# Altium footprint library usb-dongle.PcbLib: 14 footprints
Each footprint in its own frame and in the unit in brackets; x right, y up, seen from the top. Pads: shape width x height; smd on the part's side, far side on the other; paste and mask are expansions set on the pad; w line width, h text height; cw(c..) or ccw(c..) is an arc to the next point about the centre after c.
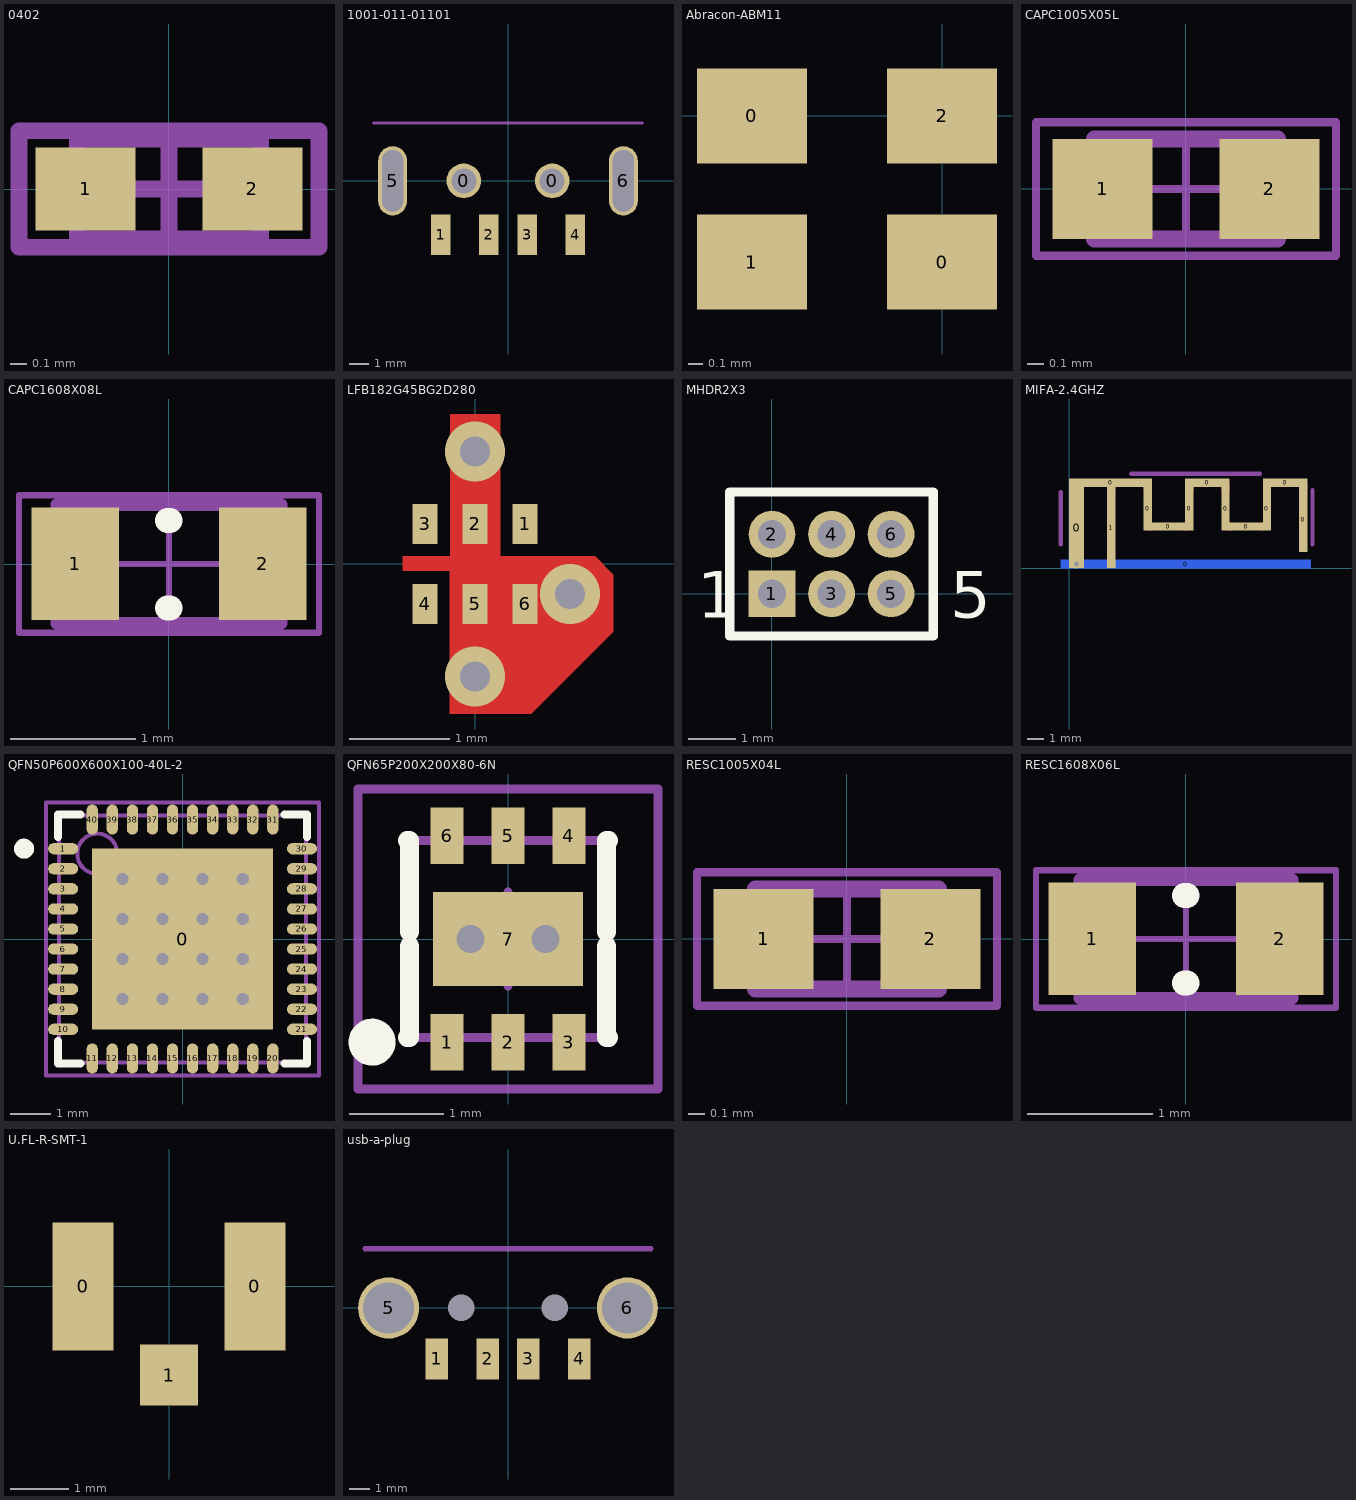
[diagram p0: the footprints below, top view; thin cyan lines are the x and y axes]

## 0402 [mm] "Chip Capacitor, Body 1.0x0.5mm, IPC High Density"
height 1.3
pads (2):
  rect 0.6x0.5 smd: 1(-0.5,0) 2(0.5,0)
Mechanical 13:
  lines w0.1: -0.55,-0.3 -0.55,0.3 0.55,0.3 0.55,-0.3 -0.55,-0.3
Mechanical 15:
  lines w0.1: -0.3,0 0.3,0 ; 0,-0.3 0,0.3 ; -0.9,-0.35 -0.9,0.35 0.9,0.35 0.9,-0.35 -0.9,-0.35
3D body: height 1.3, standoff 0, extent -0.55,-0.3 0.55,0.3

## 1001-011-01101 [mm] "CNC Tech CONN USB A TYPE ULTRA FLAT SMD"
pads (8):
  round 1.8 hole 1.3 unplated: 0(-2.3,0) 0(2.3,0)
  rect 1x2.1 smd: 1(-3.5,-2.8) 2(-1,-2.8) 3(1,-2.8) 4(3.5,-2.8)
  oval 1.5x3.6 hole 1.1 slot 3.2 at 90 deg: 5(-6,0) 6(6,0)
Mechanical 1:
  lines w0.15: -7,3 7,3
3D body: height 0, standoff -2.8, extent -6.2,-1 -5.8,1
3D body: height 0, standoff -2.8, extent 5.8,-1 6.2,1
3D body: height 1, standoff 0, extent 3.066,-3.269 3.934,-1
3D body: height 1, standoff 0, extent 0.566,-3.269 1.434,-1
3D body: height 1, standoff 0, extent -1.434,-3.269 -0.566,-1
3D body: height 1, standoff 0, extent -3.934,-3.269 -3.066,-1
3D body: height 3.2, standoff -1.3, extent -6,-1 6,18.7

## Abracon-ABM11 [mm]
pads (4):
  rect 0.75x0.65 smd: 0(-1.3,0) 0(0,-1) 1(-1.3,-1) 2(0,0)
3D body: height 0.59, standoff 0, extent -1.65,-1.3 0.35,0.3

## CAPC1005X05L [mm] "Chip Capacitor, Body 1.1x0.5mm, IPC High Density, EIA 0402"
height 0.5
pads (2):
  rect 0.6x0.6 smd: 1(-0.5,0) 2(0.5,0)
Mechanical 13:
  lines w0.1: -0.55,-0.3 0.55,-0.3 0.55,0.3 -0.55,0.3 -0.55,-0.3
Mechanical 15:
  lines w0.05: -0.3,0 0.3,0 ; 0,-0.3 0,0.3 ; -0.9,-0.4 -0.9,0.4 0.9,0.4 0.9,-0.4 -0.9,-0.4
3D body: height 0.6, standoff 0, extent -0.55,-0.3 -0.25,0.3
3D body: height 0.6, standoff 0, extent -0.25,-0.3 0.25,0.3
3D body: height 0.6, standoff 0, extent 0.25,-0.3 0.55,0.3

## CAPC1608X08L [mm] "Chip Capacitor, Body 1.6x0.8mm, IPC High Density, EIA 0603"
height 0.8
pads (2):
  rect 0.7x0.9 smd: 1(-0.75,0) 2(0.75,0)
Top Overlay:
  lines w0.2: -0.01,-0.35 0.01,-0.35 ; -0.01,0.35 0.01,0.35
Mechanical 13:
  lines w0.1: 0.9,0.475 0.9,-0.475 -0.9,-0.475 -0.9,0.475 0.9,0.475 ; 0.9,0.475 0.9,0.475
Mechanical 15:
  lines w0.05: -0.475,0 0.475,0 ; 0,-0.475 0,0.475 ; -1.2,-0.55 1.2,-0.55 1.2,0.55 -1.2,0.55 -1.2,-0.55
3D body: height 0.95, standoff 0, extent 0.4,-0.475 0.9,0.475
3D body: height 0.95, standoff 0, extent -0.4,-0.475 0.4,0.475
3D body: height 0.95, standoff 0, extent -0.9,-0.475 -0.4,0.475

## LFB182G45BG2D280 [mm] "Murata Balun"
pads (6):
  rect 0.25x0.4 smd mask+0: 1(0.5,0.4) 2(0,0.4) 3(-0.5,0.4) 4(-0.5,-0.4) 5(0,-0.4) 6(0.5,-0.4)
via 0,1.125 diameter 0.6 hole 0.3
via 0.95,-0.3 diameter 0.6 hole 0.3
via 0,-1.125 diameter 0.6 hole 0.3
Top Layer:
  region: -0.251,-0.395 -0.251,-1.5 -0.25,-1.5 -0.249,-1.498 0.561,-1.498 1.382,-0.677
  region: -0.25,1.499 -0.25,0.027 -0.236,0.013 0.242,0.013 0.25,0.021 0.25,1.499 0.251,1.5
  region: -0.724,0.075 1.202,0.075 1.382,-0.106 1.382,-0.677 -0.215,-0.677 -0.236,-0.664 -0.251,-0.641 -0.251,-0.15 -0.251,-0.069 -0.333,-0.067 -0.721,-0.067
3D body: height 0.7, standoff 0, extent -0.851,-0.453 0.854,0.448

## MHDR2X3 [mm] "Connector; Header; 3x2 Position"
pads (6):
  rect 1x1 hole 0.6: 1(0,0)
  round 1 hole 0.6: 2(0,1.27) 3(1.27,0) 4(1.27,1.27) 5(2.54,0) 6(2.54,1.27)
Top Overlay:
  lines w0.2: -0.9,-0.9 3.44,-0.9 3.44,2.17 -0.9,2.17 -0.9,-0.9
  text "1" at -1.6,-0.508 h1
  text "5" at 3.8,-0.508 h1

## MIFA-2.4GHZ [mm]
pads (13):
  rect 0.9x4.9 smd paste-100 mask-100: 0(0.45,2.45)
  rect 5x0.5 smd paste-100 mask-100: 0(2.5,5.15)
  rect 0.5x2.64 smd paste-100 mask-100: 0(4.75,3.58) 0(7.251,3.58) 0(9.45,3.58) 0(11.95,3.58)
  rect 2x0.5 smd paste-100 mask-100: 0(6,2.51) 0(10.7,2.51)
  rect 15.1x0.5 smd far side paste-100 mask-100: 0(7.05,0.25)
  rect 2.7x0.5 smd paste-100 mask-100: 0(8.35,5.15) 0(13.05,5.15)
  rect 0.5x3.94 smd paste-100 mask-100: 0(14.15,2.93)
  rect 0.5x4.9 smd paste-100 mask-100: 1(2.55,2.45)
via 0.452,0.264 diameter 0.6 hole 0.3
Top Layer:
  rectangle: 11.7,4.786 12.2,5.088
  rectangle: 11.621,2.26 11.782,2.76
  rectangle: 9.2,4.601 9.7,5.067
  rectangle: 7,4.618 7.5,5.106
  rectangle: 0,4.544 0.9,5.13
  rectangle: 2.3,4.764 2.8,4.976
  rectangle: 4.5,4.722 5,5.016
  rectangle: 6.9,2.26 7.214,2.76
  rectangle: 4.756,2.26 5.07,2.76
  rectangle: 13.901,4.799 14.401,4.981
  rectangle: 9.588,2.261 9.814,2.761
Mechanical 1:
  lines w0.254: -0.5,1.429 -0.5,4.603 ; 3.752,5.7 11.539,5.7 ; 14.7,1.427 14.7,4.699

## QFN50P600X600X100-40L-2 [mm] "QFN, 40-Leads, Body 6.2x6.2mm (max), Pitch 0.50mm, IPC High Density"
height 1
pads (41):
  rect 4.5x4.5 smd paste-1.5 mask+0: 0(0,0)
  oval 0.75x0.28 smd paste-0.025 mask+0.05: 1(-2.975,2.25) 2(-2.975,1.75) 3(-2.975,1.25) 4(-2.975,0.75) 5(-2.975,0.25) 6(-2.975,-0.25) 7(-2.975,-0.75) 8(-2.975,-1.25) 9(-2.975,-1.75) 10(-2.975,-2.25) 21(2.975,-2.25) 22(2.975,-1.75) 23(2.975,-1.25) 24(2.975,-0.75) 25(2.975,-0.25) 26(2.975,0.25) 27(2.975,0.75) 28(2.975,1.25) 29(2.975,1.75) 30(2.975,2.25)
  oval 0.28x0.75 smd paste-0.025 mask+0.05: 11(-2.25,-2.975) 12(-1.75,-2.975) 13(-1.25,-2.975) 14(-0.75,-2.975) 15(-0.25,-2.975) 16(0.25,-2.975) 17(0.75,-2.975) 18(1.25,-2.975) 19(1.75,-2.975) 20(2.25,-2.975) 31(2.25,2.975) 32(1.75,2.975) 33(1.25,2.975) 34(0.75,2.975) 35(0.25,2.975) 36(-0.25,2.975) 37(-0.75,2.975) 38(-1.25,2.975) 39(-1.75,2.975) 40(-2.25,2.975)
via -1.5,1.5 diameter 0.6 hole 0.3
via -0.5,1.5 diameter 0.6 hole 0.3
via 0.5,1.5 diameter 0.6 hole 0.3
via 1.5,1.5 diameter 0.6 hole 0.3
via -1.5,0.5 diameter 0.6 hole 0.3
via -0.5,0.5 diameter 0.6 hole 0.3
via 0.5,0.5 diameter 0.6 hole 0.3
via 1.5,0.5 diameter 0.6 hole 0.3
via -1.5,-0.5 diameter 0.6 hole 0.3
via -0.5,-0.5 diameter 0.6 hole 0.3
via 0.5,-0.5 diameter 0.6 hole 0.3
via 1.5,-0.5 diameter 0.6 hole 0.3
via -1.5,-1.5 diameter 0.6 hole 0.3
via -0.5,-1.5 diameter 0.6 hole 0.3
via 0.5,-1.5 diameter 0.6 hole 0.3
via 1.5,-1.5 diameter 0.6 hole 0.3
Top Overlay:
  circle w0.25: c-3.95,2.25 r0.125
  lines w0.2: -3.1,-2.54 -3.1,-3.1 -2.54,-3.1 ; -3.1,2.54 -3.1,3.1 -2.54,3.1 ; 2.54,-3.1 3.1,-3.1 3.1,-2.54 ; 2.54,3.1 3.1,3.1 3.1,2.54
Top Paste:
  rectangle: 0.8,0.8 2,2
  rectangle: -0.6,0.8 0.6,2
  rectangle: -2,0.8 -0.8,2
  rectangle: -2,-0.6 -0.8,0.6
  rectangle: 0.8,-0.6 2,0.6
  rectangle: 0.8,-2 2,-0.8
  rectangle: -0.6,-2 0.6,-0.8
  rectangle: -2,-2 -0.8,-0.8
Mechanical 13:
  circle w0.1: c-2.125,2.125 r0.5
  lines w0.1: -3.075,-3.075 -3.075,3.075 3.075,3.075 3.075,-3.075 -3.075,-3.075
Mechanical 15:
  lines w0.1: -0.5,0 0.5,0 ; 0,-0.5 0,0.5 ; -3.4,-3.4 -3.4,3.4 3.4,3.4 3.4,-3.4 -3.4,-3.4
3D body: height 1, standoff 0.05, extent -3.075,-3.075 3.075,3.075

## QFN65P200X200X80-6N [mm] "QFN, 6-Leads, Body 2.1x2.1mm (max), Pitch 0.65mm, IPC Medium Density"
height 0.8
pads (7):
  rect 0.35x0.6 smd paste-0.05 mask+0.07: 1(-0.65,-1.1) 2(0,-1.1) 3(0.65,-1.1) 4(0.65,1.1) 5(0,1.1) 6(-0.65,1.1)
  rect 1.6x1 smd paste-0.1: 7(0,0)
via -0.4,0 diameter 0.6 hole 0.3
via 0.4,0 diameter 0.6 hole 0.3
Top Overlay:
  circle w0.25: c-1.45,-1.1 r0.125
  lines w0.2: -1.075,-1.05 -1.05,-1.05 -1.05,-0.075 ; -1.075,1.05 -1.05,1.05 -1.05,0.075 ; 1.05,-0.075 1.05,-1.05 1.075,-1.05 ; 1.05,0.075 1.05,1.05 1.075,1.05
Mechanical 13:
  lines w0.1: -1.05,-1.05 -1.05,1.05 1.05,1.05 1.05,-1.05 -1.05,-1.05
Mechanical 15:
  lines w0.1: -0.5,0 0.5,0 ; 0,-0.5 0,0.5 ; -1.6,-1.6 -1.6,1.6 1.6,1.6 1.6,-1.6 -1.6,-1.6
3D body: height 0.8, standoff 0, extent -1.05,-1.05 1.05,1.05

## RESC1005X04L [mm] "Chip Resistor, Body 1.1x0.5mm, IPC High Density, EIA 0402"
height 0.4
pads (2):
  rect 0.6x0.6 smd: 1(-0.5,0) 2(0.5,0)
Mechanical 13:
  lines w0.1: -0.55,-0.3 -0.55,0.3 0.55,0.3 0.55,-0.3 -0.55,-0.3
Mechanical 15:
  lines w0.05: -0.3,0 0.3,0 ; 0,-0.3 0,0.3 ; -0.9,-0.4 -0.9,0.4 0.9,0.4 0.9,-0.4 -0.9,-0.4
3D body: height 0.4, standoff 0, extent 0.25,-0.3 0.55,0.3
3D body: height 0.4, standoff 0, extent -0.25,-0.3 0.25,0.3
3D body: height 0.4, standoff 0, extent -0.55,-0.3 -0.25,0.3

## RESC1608X06L [mm] "Chip Resistor, Body 1.6x0.8mm, IPC High Density, EIA 0603"
height 0.6
pads (2):
  rect 0.7x0.9 smd: 1(-0.75,0) 2(0.75,0)
Top Overlay:
  lines w0.2: -0.01,-0.35 0.01,-0.35 ; -0.01,0.35 0.01,0.35
Mechanical 13:
  lines w0.1: -0.85,-0.475 -0.85,0.475 0.85,0.475 0.85,-0.475 -0.85,-0.475
Mechanical 15:
  lines w0.05: -0.475,0 0.475,0 ; 0,-0.475 0,0.475 ; -1.2,-0.55 -1.2,0.55 1.2,0.55 1.2,-0.55 -1.2,-0.55
3D body: height 0.6, standoff 0, extent -0.85,-0.475 -0.35,0.475
3D body: height 0.6, standoff 0, extent -0.35,-0.475 0.35,0.475
3D body: height 0.6, standoff 0, extent 0.35,-0.475 0.85,0.475

## U.FL-R-SMT-1 [mm]
height 1.25
pads (3):
  rect 1.05x2.2 smd: 0(-1.475,0) 0(1.475,0)
  rect 1x1.05 smd: 1(0,-1.525)
3D body: height 1.25, standoff 0, extent -1.5,-1.5 1.49,1.513

## usb-a-plug [mm] "Keystone USB A-TYPE HORIZONTAL SMT PLUG"
pads (8):
  round 0 hole 1.3 unplated: 0(-2.3,0) 0(2.3,0)
  rect 1.1x1.99 smd: 1(-3.5,-2.5) 2(-1,-2.5) 3(1,-2.5) 4(3.5,-2.5)
  round 3 hole 2.5: 5(-5.85,0) 6(5.85,0)
Mechanical 1:
  lines w0.254: -7,2.9 7,2.9
3D body: height 1, standoff 0, extent 3.108,-3.505 3.977,-1.236
3D body: height 1, standoff 0, extent 0.59,-3.523 1.459,-1.253
3D body: height 1, standoff 0, extent -1.413,-3.505 -0.544,-1.236
3D body: height 1, standoff 0, extent -3.895,-3.523 -3.026,-1.253
3D body: height 4.5, standoff 0, extent -6.309,-1.247 6.338,17.559